# Altium schematic symbol library CPC1215.SchLib: 1 symbol
Pins are listed as number, name and electrical type; pins without a type are passive.

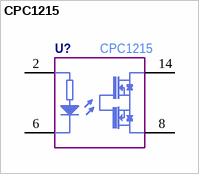
[diagram p0: symbol CPC1215]

## CPC1215
designator U?  Manufacturer Part Number: CPC1215  (hidden comment: *)
pins: 1 3 hidden, 2, 3 hidden, 4 3 hidden, 5 3 hidden, 6, 7 3 hidden, 8 3, 9 3 hidden, 10 3 hidden, 11 3 hidden, 12 hidden, 13 3 hidden, 14 3